# Altium schematic symbol library CY8C4013SXI.SchLib: 1 symbol
Pins are listed as number, name and electrical type; pins without a type are passive.

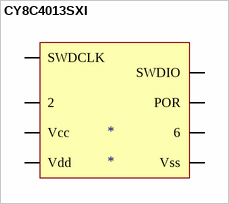
[diagram p0: symbol CY8C4013SXI]

## CY8C4013SXI
designator *
CY8C4013SXI
footprint CY8C4013SXISOIC127P600-8N (SOIC127P600-8N)
pins: 1 SWDCLK, 2, 3 Vcc, 4 Vdd, 5 Vss, 6, 7 POR, 8 SWDIO